# EAGLE library part PINHEAD_2X06 (library pinhead)
12 Positions Header
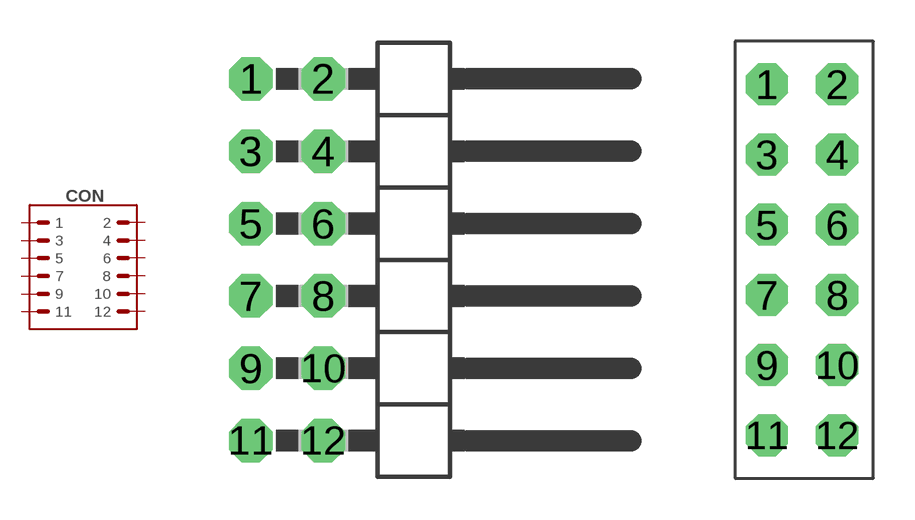
[diagram p5: symbol with the pads of 2X06-PTH-RA-2.54-MALE; footprints 2X06-PTH-RA-2.54-MALE, 2X06-PTH-2.54-FEMALE]

Designator prefix CON

## PINHEAD_2X06-RA-MALE (DIGIKEY#: SAM1037-06-ND; MANF: Samtec Inc; MANF#: TSW-106-08-G-D-RA)  [2X06-PTH-RA-2.54-MALE]
1  1  pas
2  2  pas
3  3  pas
4  4  pas
5  5  pas
6  6  pas
7  7  pas
8  8  pas
9  9  pas
10  10  pas
11  11  pas
12  12  pas

## PINHEAD_2X06-FEMALE (DIGIKEY#: S7074-ND; MANF: Sullins Connector Solutions; MANF#: PPTC062LFBN-RC)  [2X06-PTH-2.54-FEMALE]
Pads as for 2X06-PTH-RA-2.54-MALE

## PINHEAD_2X06-MALE  [2X06-PTH-2.54]
Pads as for 2X06-PTH-RA-2.54-MALE

## Footprint 2X06-PTH-RA-2.54-MALE (pad centres in mm)
PIN HEADER
drill 1.016 octagon: 1 -1.35,6.35; 2 1.19,6.35; 3 -1.35,3.81; 4 1.19,3.81; 5 -1.35,1.27; 6 1.19,1.27; 7 -1.35,-1.27; 8 1.19,-1.27; 9 -1.35,-3.81; 10 1.19,-3.81; 11 -1.35,-6.35; 12 1.19,-6.35

## Footprint 2X06-PTH-2.54-FEMALE (pad centres in mm)
drill 1.016 octagon: 1 -1.27,6.35; 2 1.27,6.35; 3 -1.27,3.81; 4 1.27,3.81; 5 -1.27,1.27; 6 1.27,1.27; 7 -1.27,-1.27; 8 1.27,-1.27; 9 -1.27,-3.81; 10 1.27,-3.81; 11 -1.27,-6.35; 12 1.27,-6.35

## Footprint 2X06-PTH-2.54 (pad centres in mm)
drill 1 pad 1.9: 1 -1.27,6.35; 2 1.27,6.35; 3 -1.27,3.81; 4 1.27,3.81; 5 -1.27,1.27; 6 1.27,1.27; 7 -1.27,-1.27; 8 1.27,-1.27; 9 -1.27,-3.81; 10 1.27,-3.81; 11 -1.27,-6.35; 12 1.27,-6.35